# Altium schematic symbol library CRCW120660R0KNEAIF.SchLib: 1 symbol
Pins are listed as number, name and electrical type; pins without a type are passive.

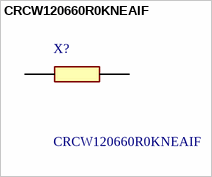
[diagram p0: symbol CRCW120660R0KNEAIF]

## CRCW120660R0KNEAIF
designator X?
Thick Film Resistors - SMD 1/4watt 60ohms 10%; Manufacturer_Name: Vishay; Geometry.Height: 0.6mm; Mouser Part Number: 71-CRCW120660R0KNAIF; Mouser Price/Stock: https://www.mouser.co.uk/ProductDetail/Vishay-Dale/CRCW120660R0KNEAIF?qs=0LP1uVfdam9gTU37MuGrNg%3D%3D; Manufacturer_Part_Number: CRCW120660R0KNEAIF; Datasheet Link: http://componentsearchengine.com/Datasheets/1/CRCW120660R0KNEAIF.pdf
footprint RESC3216X60N
pins: 1, 2